# EAGLE library part LIS2DH (library firefly)
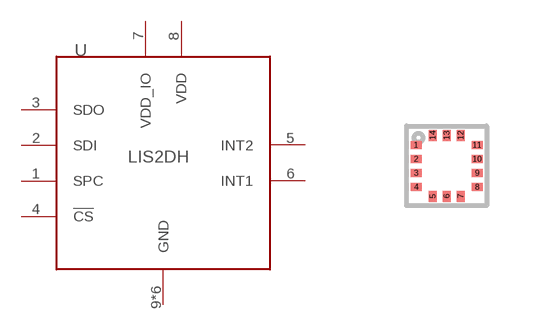
[diagram p18: symbol with the pads of LGA-14-2X2; footprint LGA-14-2X2]

Designator prefix -

## LIS2DH  [LGA-14-2X2]
1  SPC
2  SDI
3  SDO
4  !CS
5  INT2
6  INT1
7  VDD_IO
8  VDD
9  GND
10  GND
11  GND
12  GND
13  GND
14  GND

## Footprint LGA-14-2X2 (pad centres in mm)
smd 0.275 x 0.2: 1 -0.762,0.525; 2 -0.762,0.175; 3 -0.762,-0.175; 4 -0.762,-0.525; 8 0.762,-0.525; 9 0.762,-0.175; 10 0.762,0.175; 11 0.762,0.525
smd 0.2 x 0.275: 5 -0.35,-0.762; 6 0,-0.762; 7 0.35,-0.762; 12 0.35,0.762; 13 0,0.762; 14 -0.35,0.762